# Altium footprint library BU2032SM-JJ-GTR.PcbLib: 1 footprints
Each footprint in its own frame and in the unit in brackets; x right, y up, seen from the top. Pads: shape width x height; smd on the part's side, far side on the other; paste and mask are expansions set on the pad; w line width, h text height; cw(c..) or ccw(c..) is an arc to the next point about the centre after c.
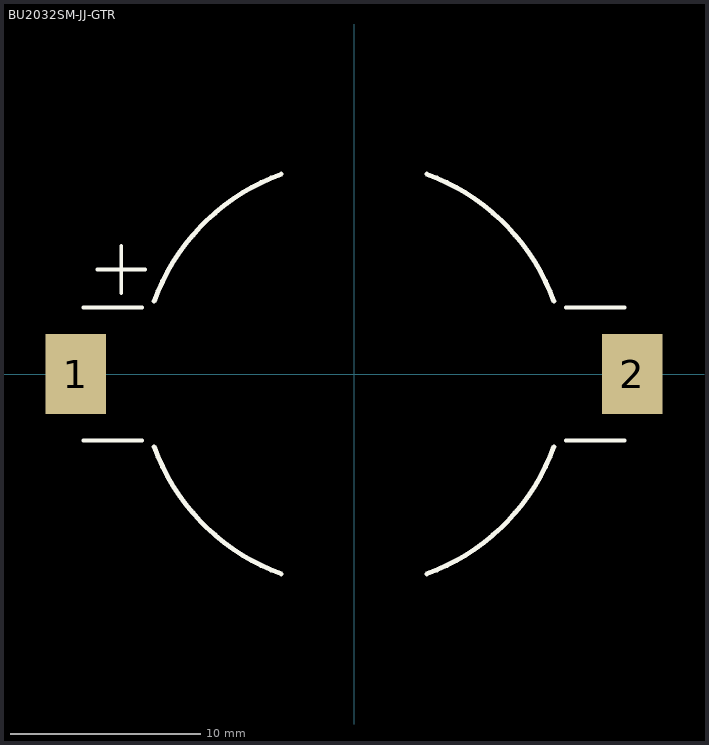
[diagram p0: the footprint, top view; thin cyan lines are the x and y axes]

## BU2032SM-JJ-GTR [mm] "CR2032 Battery Holder"
pads (2):
  rect 3.2x4.2 smd: 1(-14.65,0) 2(14.65,0)
Top Overlay:
  lines w0.2: -14.25,-3.5 -11.15,-3.5 ; -14.25,3.5 -11.15,3.5 ; -13.5,5.5 -11,5.5 ; -12.25,4.25 -12.25,6.75 ; 11.15,-3.5 14.25,-3.5 ; 11.15,3.5 14.25,3.5
  lines w0.254: -10.525,-3.831 ccw(c0,0) -3.831,-10.525 ; -10.525,3.831 cw(c0,0) -3.831,10.525 ; 3.831,-10.525 ccw(c0,0) 10.525,-3.831 ; 3.831,10.525 cw(c0,0) 10.525,3.831
3D body "BU2032SM-JJ-GTR.STEP": height 5.3, standoff 0, extent -15.85,-10 15.85,10